# EAGLE library part PH402466AG (library micrel)
Quad Mags
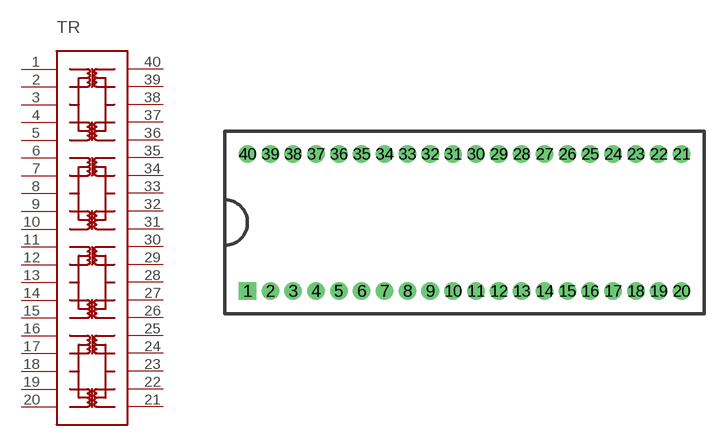
[diagram p1: symbol with the pads of PH402466AG; footprint PH402466AG]

Designator prefix TR

## PH402466AG  [PH402466AG]
1  P$1
2  P$2
3  P$3
4  P$4
5  P$5
6  P$6
7  P$7
8  P$8
9  P$9
10  P$10
11  P$11
12  P$12
13  P$13
14  P$14
15  P$15
16  P$16
17  P$17
18  P$18
19  P$19
20  P$20
21  P$21
22  P$22
23  P$23
24  P$24
25  P$25
26  P$26
27  P$27
28  P$28
29  P$29
30  P$30
31  P$31
32  P$32
33  P$33
34  P$34
35  P$35
36  P$36
37  P$37
38  P$38
39  P$39
40  P$40

## Footprint PH402466AG (pad centres in mm)
drill 0.8 square: 1 -15.3,-5.1
drill 0.8 round: 2 -13.6,-5.1; 3 -11.9,-5.1; 4 -10.2,-5.1; 5 -8.5,-5.1; 6 -6.8,-5.1; 7 -5.1,-5.1; 8 -3.4,-5.1; 9 -1.7,-5.1; 10 0,-5.1; 11 1.7,-5.1; 12 3.4,-5.1; 13 5.1,-5.1; 14 6.8,-5.1; 15 8.5,-5.1; 16 10.2,-5.1; 17 11.9,-5.1; 18 13.6,-5.1; 19 15.3,-5.1; 20 17,-5.1; 21 17,5.1; 22 15.3,5.1; 23 13.6,5.1; 24 11.9,5.1; 25 10.2,5.1; 26 8.5,5.1; 27 6.8,5.1; 28 5.1,5.1; 29 3.4,5.1; 30 1.7,5.1; 31 0,5.1; 32 -1.7,5.1; 33 -3.4,5.1; 34 -5.1,5.1; 35 -6.8,5.1; 36 -8.5,5.1; 37 -10.2,5.1; 38 -11.9,5.1; 39 -13.6,5.1; 40 -15.3,5.1